# Altium footprint library PCB_HUD_LED_v2.1.PcbLib: 24 footprints (part 2 of 2)
Each footprint in its own frame and in the unit in brackets; x right, y up, seen from the top. Pads: shape width x height; smd on the part's side, far side on the other; paste and mask are expansions set on the pad; w line width, h text height; cw(c..) or ccw(c..) is an arc to the next point about the centre after c.
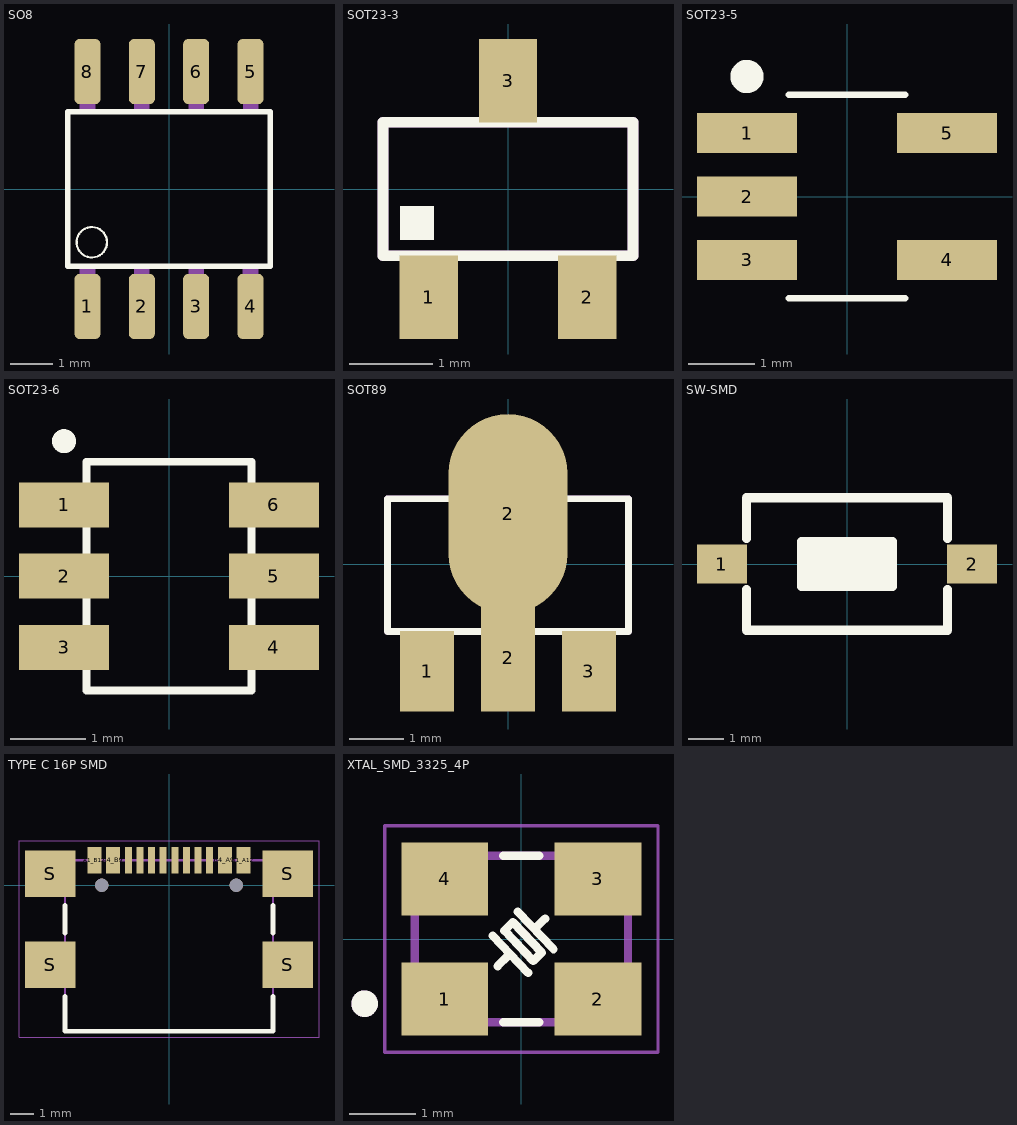
[diagram p1: the footprints below, top view; thin cyan lines are the x and y axes]

## SO8 [mil]
pads (8):
  rrect40% 24x60 smd: 1(-75,-108) 2(-25,-108) 3(25,-108) 4(75,-108) 5(75,108) 6(25,108) 7(-25,108) 8(-75,108)
Top Overlay:
  circle w2: c-71,-49 r14
  lines w5: -93,-71 93,-71 93,71 -93,71 -93,-71
Mechanical 13:
  region: -68,-113.07 -82.04,-113.07 -82.04,-73 -68,-73
  region: -18,-113.21 -32.01,-113.21 -32.01,-73 -18,-73
  region: 32,-113.06 18.02,-113.06 18.02,-73 32,-73
  region: 82,-113.01 68.01,-113.01 68.01,-73 82,-73
  region: -68,73.12 -82.09,73.12 -82.09,113 -68,113
  region: -18,73.08 -32.01,73.08 -32.01,113 -18,113
  region: 32,73.04 18.02,73.04 18.02,113 32,113
  region: 82,73.07 68.09,73.07 68.09,113 82,113
3D body "TJA1020.STEP": height 68.9, standoff 0, extent -96.47,-118.11 96.45,118.11

## SOT23-3 [mm]
pads (3):
  rect 0.7x1 smd: 1(-0.95,-1.3) 2(0.95,-1.3) 3(0,1.3)
Top Overlay:
  region: -0.893,-0.607 -1.295,-0.607 -1.295,-0.206 -0.893,-0.206
  lines w0.127: -1.5,-0.8 -1.5,0.8 1.5,0.8 1.5,-0.8 -1.5,-0.8
Mechanical 13:
  region: 0.2,0.802 -0.2,0.802 -0.2,1.4 0.2,1.4
  region: 1.15,-1.402 0.751,-1.402 0.751,-0.8 1.15,-0.8
  region: -0.75,-1.402 -1.152,-1.402 -1.152,-0.8 -0.75,-0.8
  lines w0.127: -1.5,-0.8 -1.5,0.8 1.5,0.8 1.5,-0.8 -1.5,-0.8
3D body "SI2302DS--3DModel-STEP-269445.STEP": height 1.1, standoff 0, extent -1.45,-1.15 1.45,1.15

## SOT23-5 [mm]
pads (5):
  rect 1.5x0.6 smd: 1(-1.5,0.95) 2(-1.5,0) 3(-1.5,-0.95) 4(1.5,-0.95) 5(1.5,0.95)
Top Overlay:
  circle w0.25: c-1.5,1.8 r0.125
  lines w0.1: -0.875,-1.525 0.875,-1.525 ; -0.875,1.525 0.875,1.525
3D body: height 0.15, standoff 0, extent -1.753,0.711 -1.219,1.168
3D body: height 0.9, standoff 0, extent -1.219,0.711 -1.092,1.168
3D body: height 0.9, standoff 0.75, extent -1.092,0.711 -0.813,1.168
3D body: height 1.45, standoff 0, extent -0.875,-1.525 0.875,1.525
3D body: height 0.9, standoff 0.75, extent -1.092,-0.239 -0.813,0.218
3D body: height 0.9, standoff 0, extent -1.219,-0.239 -1.092,0.218
3D body: height 0.15, standoff 0, extent -1.753,-0.239 -1.219,0.218
3D body: height 0.9, standoff 0.75, extent -1.092,-1.189 -0.813,-0.732
3D body: height 0.9, standoff 0, extent -1.219,-1.189 -1.092,-0.732
3D body: height 0.15, standoff 0, extent -1.753,-1.189 -1.219,-0.732
3D body: height 0.9, standoff 0.75, extent 0.813,0.732 1.092,1.189
3D body: height 0.9, standoff 0, extent 1.092,0.732 1.219,1.189
3D body: height 0.15, standoff 0, extent 1.219,0.732 1.753,1.189
3D body: height 0.9, standoff 0.75, extent 0.813,-1.168 1.092,-0.711
3D body: height 0.9, standoff 0, extent 1.092,-1.168 1.219,-0.711
3D body: height 0.15, standoff 0, extent 1.219,-1.168 1.753,-0.711

## SOT23-6 [mm]
pads (6):
  rect 1.2x0.6 smd: 1(-1.4,0.95) 2(-1.4,0) 3(-1.4,-0.95) 4(1.4,-0.95) 5(1.4,0) 6(1.4,0.95)
Top Overlay:
  circle w0.17: c-1.4,1.8 r0.075
  lines w0.102: -1.1,-1.524 1.1,-1.524 1.1,1.524 -1.1,1.524 -1.1,-1.524
3D body "MP1470GJ-Z.STEP": height 1, standoff 0, extent -1.4,-1.45 1.4,1.45

## SOT89 [mm]
pads (4):
  rect 1x1.5 smd paste-2 mask+0: 1(-1.499,-1.981) 3(1.499,-1.981)
  rect 1x2 smd paste-2 mask+0: 2(0,-1.727)
  oval 2.2x3.7 smd paste-3: 2(0,0.94)
Top Overlay:
  lines w0.127: -2.235,-1.245 -2.235,1.219 2.235,1.219 2.235,-1.245 -2.235,-1.245
Top Paste:
  region: 0.4,-2.68 -0.4,-2.68 -0.4,-1.28 0.4,-1.28
  region: 1.9,-2.68 1.1,-2.68 1.1,-1.28 1.9,-1.28
  region: -1.1,-2.68 -1.9,-2.68 -1.9,-1.28 -1.1,-1.28
  region: 0.9,0 -0.9,0 -0.9,2.2 0.9,2.2
Top Solder:
  region: -0.975,-2.775 -2.025,-2.775 -2.025,-1.2 -0.975,-1.2
  region: 2.025,-2.775 0.975,-2.775 0.975,-1.2 2.025,-1.2
  region: 0.525,-2.775 -0.525,-2.775 -0.525,-1.2 0.525,-1.2
Mechanical 13:
  region: -1.27,-2.108 -1.727,-2.108 -1.727,-1.27 -1.27,-1.27
  region: 1.727,-2.108 1.27,-2.108 1.27,-1.27 1.727,-1.27
  region: 0.279,-2.108 -0.279,-2.108 -0.279,-1.27 0.279,-1.27
  region: 0.787,1.575 0.787,1.295 -0.787,1.295 -0.787,1.321 -0.787,1.575 -0.356,2.007 0.356,2.007
  lines w0.127: -2.235,-1.245 2.235,-1.245 ; -2.235,1.219 2.235,1.219
  lines w0.2: -0.787,1.295 0.787,1.295 0.787,1.575 0.356,2.007 -0.356,2.007 -0.787,1.575 -0.787,1.295
3D body "HT7550-1-SOT89--3DModel-STEP-269445.STEP": height 1.6, standoff 0, extent -2.25,-2.267 2.25,1.828

## SW-SMD [mm]
pads (2):
  rect 1.4x1.1 smd: 1(-3.5,0) 2(3.5,0)
Top Overlay:
  rectangle: -1.27,-0.635 1.27,0.635
  lines w0.254: -2.819,-0.711 -2.819,-1.854 2.819,-1.854 2.819,-0.711 ; -2.819,0.711 -2.819,1.854 2.819,1.854 2.819,0.711 ; -1.27,-0.635 1.27,-0.635 1.27,0.635 -1.27,0.635 -1.27,-0.635
3D body "User Library-Button-SMD.step": height 2.5, standoff 0, extent -3.05,-1.85 3.05,1.85

## TYPE C 16P SMD [mm]
pads (18):
  rect 0.6x1.15 smd: A1_B12(-3.2,1.075) A4_B9(-2.4,1.075) B1_A12(3.2,1.075) B4_A9(2.4,1.075)
  rect 0.3x1.15 smd: A5(-1.25,1.075) A6(-0.25,1.075) A7(0.25,1.075) A8(1.25,1.075) B5(1.75,1.075) B6(0.75,1.075) B7(-0.75,1.075) B8(-1.75,1.075)
  rect 2.18x2 smd: S(-5.11,-3.43) S(-5.11,0.5) S(5.11,-3.43) S(5.11,0.5)
  round 0.57 / inner round 0 / far side round 0.57 hole 0.57 mask+0.102: ""(-2.89,0)
  round 0.57 hole 0.57 mask+0.102: ""(2.89,0)
Top Overlay:
  lines w0.2: -4.47,-4.79 -4.47,-6.28 4.47,-6.28 4.47,-4.79 ; -4.47,-2.07 -4.47,-0.86 ; 4.47,-2.07 4.47,-0.86
Mechanical 13:
  lines w0.1: -4.47,-6.28 4.47,-6.28 4.47,1.07 -4.47,1.07 -4.47,-6.28
Mechanical 15:
  lines w0.05: -6.45,-6.53 -6.45,1.9 6.45,1.9 6.45,-6.53 -6.45,-6.53
3D body "step_temp.STEP": height 3.26, standoff -0.63, extent -5.65,-6.28 5.65,1.42

## XTAL_SMD_3325_4P [mm]
pads (4):
  rect 1.3x1.1 smd: 1(-1.15,-0.9) 2(1.15,-0.9) 3(1.15,0.9) 4(-1.15,0.9)
Top Overlay:
  circle w0.2: c-2.35,-0.97 r0.1
  lines w0.127: -0.432,0.051 0.102,-0.508 ; -0.356,-0.406 -0.203,-0.254 ; -0.27,-1.25 0.27,-1.25 ; -0.27,1.25 0.27,1.25 ; -0.051,0.406 0.483,-0.152 ; 0.229,0.178 0.356,0.305 ; -0.254,0.127 -0.127,0.254 0.305,-0.203 0.279,-0.229 0.178,-0.33 -0.254,0.127
Mechanical 13:
  circle w0.2: c-2.35,-0.97 r0.1
  lines w0.127: -1.6,-1.25 -1.6,1.25 1.6,1.25 1.6,-1.25 -1.6,-1.25
Mechanical 15:
  lines w0.05: -2.05,-1.7 -2.05,1.7 2.05,1.7 2.05,-1.7 -2.05,-1.7
3D body "ECS-480-8-33B-CWY-TR3.STEP": height 0.8, standoff 0, extent -1.6,-1.25 1.6,1.25